# EAGLE library part SN74LVC3G17DCUR (library SN74LVC3G17CUR)
TRIPLE SCHMITT-TRIGGER BUFFER, 8US8
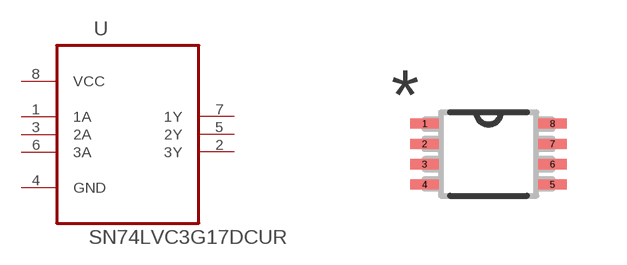
[diagram p0: symbol with the pads of SOP50P310X90-8N; footprint SOP50P310X90-8N]

Designator prefix U

## SN74LVC3G17DCUR (MPN: SN74LVC3G17DCUR; OC_FARNELL: 1902174; OC_NEWARK: 94T5066; PACKAGE: US8-8; SUPPLIER: TEXAS INSTRUMENTS)  [SOP50P310X90-8N]
1  1A  in
2  3Y  out
3  2A  in
4  GND  pas
5  2Y  out
6  3A  in
7  1Y  out
8  VCC  pwr

## Footprint SOP50P310X90-8N (pad centres in mm)
smd 0.711 x 0.254: 1 -1.6,0.762; 2 -1.6,0.254; 3 -1.6,-0.254; 4 -1.6,-0.762; 5 1.6,-0.762; 6 1.6,-0.254; 7 1.6,0.254; 8 1.6,0.762